# EAGLE library part XMLCTW-A0 (library led)
Cree X-LAMP LED
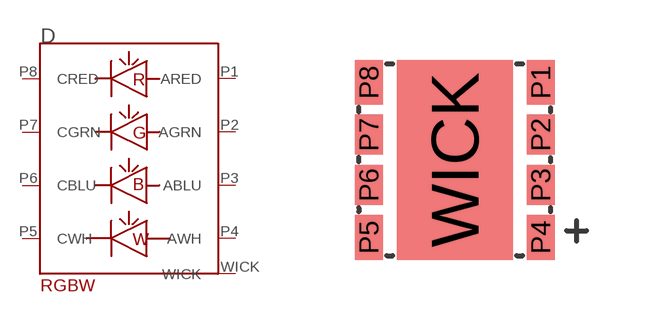
[diagram p10: symbol with the pads of XML-SMD8; footprint XML-SMD8]

Designator prefix D

## XMLCTW-A0 (DIGIKEY: XMLCTW-A0-0000-00C3ABB02CT-ND)  [XML-SMD8]
P1  ARED
P2  AGRN
P3  ABLU
P4  AWH
P5  CWH
P6  CBLU
P7  CGRN
P8  CRED
WICK  WICK

## Footprint XML-SMD8 (pad centres in mm)
typical X-lamp 8-SMD footprint from CREE aSS-bACKWARDS Footprint
smd 0.7 x 1.12: P1 2.15,1.94; P4 2.15,-1.94; P5 -2.15,-1.94; P8 -2.15,1.94
smd 0.7 x 1.005: P2 2.15,0.63; P3 2.15,-0.63; P6 -2.15,-0.63; P7 -2.15,0.63
smd 2.9 x 5: WICK 0,0